# Altium schematic symbol library Qbot_1.SCHLIB: 33 symbols
Pins are listed as number, name and electrical type; pins without a type are passive.

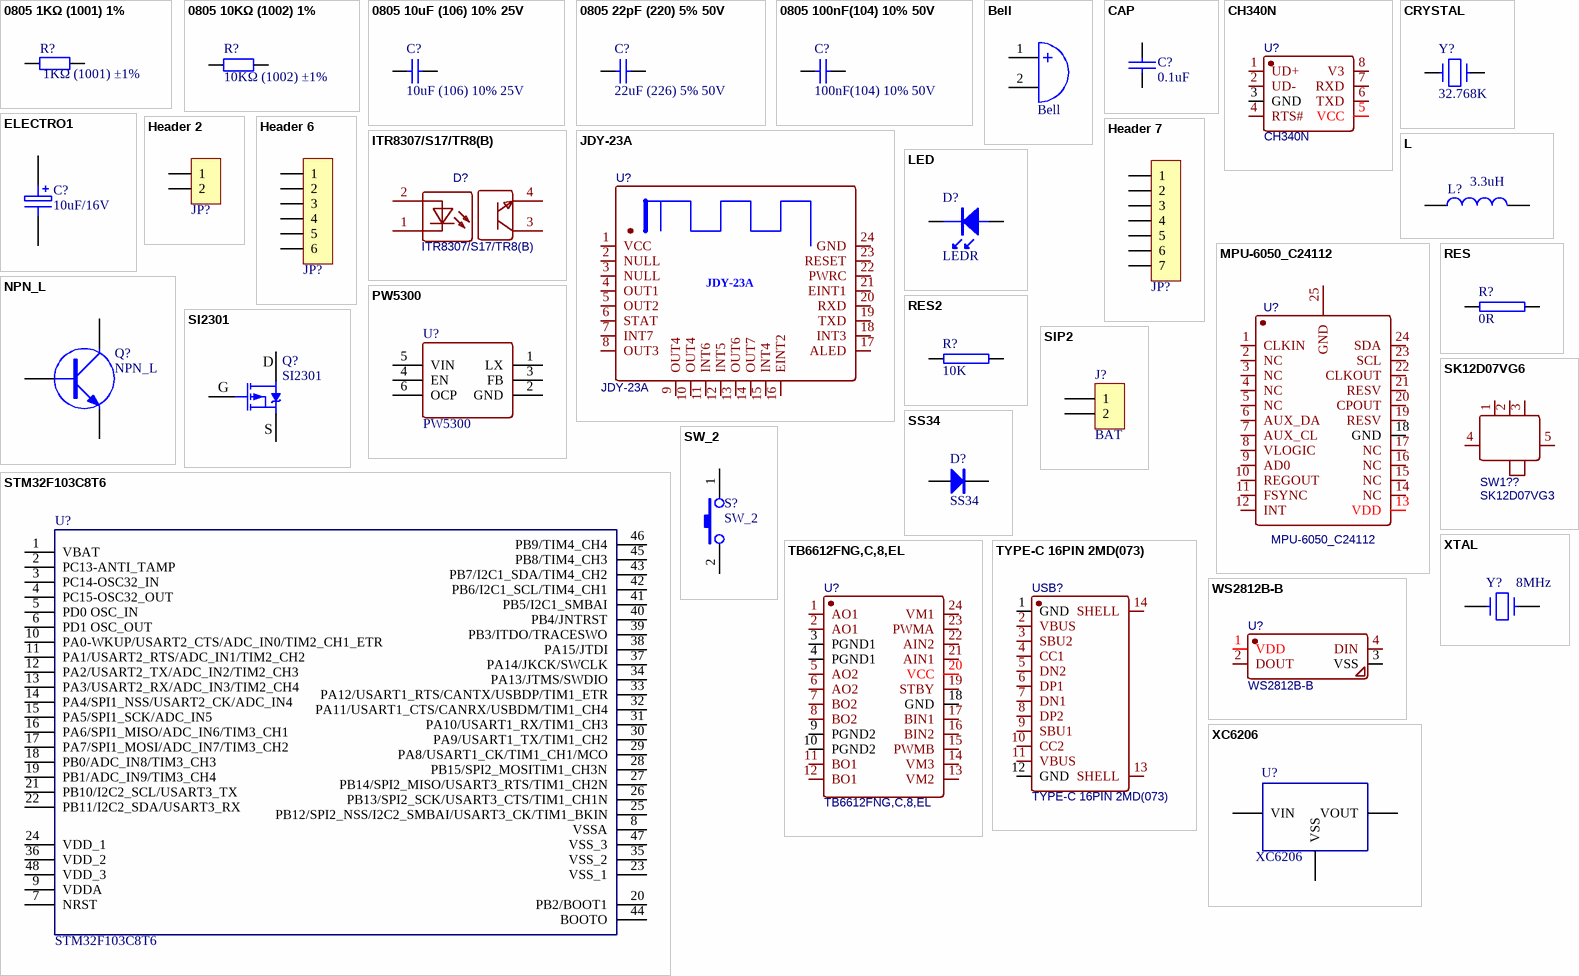
[diagram p0: symbols 0805 1KΩ (1001) 1% to XTAL]

## 0805 1KΩ (1001) 1%
designator R?, comment 1KΩ (1001) ±1%
贴片电阻; ComponentLink1Description: 供应商链接; ComponentLink1URL: http://www.szlcsc.com/product/details_18201.html; Package: 0805; Supplier: LC; SuppliersPartNumber: C17513
footprint LC-0805_R
pins: 1, 2

## 0805 10KΩ (1002) 1%
designator R?, comment 10KΩ (1002) ±1%
贴片电阻; ComponentLink1Description: 供应商链接; ComponentLink1URL: http://www.szlcsc.com/product/details_18102.html; Package: 0805; Supplier: LC; SuppliersPartNumber: C17414
footprint LC-0805_R
pins: 1, 2

## 0805 10uF (106) 10% 25V
designator C?, comment 10uF (106) 10% 25V
贴片电容; ComponentLink1Description: 供应商链接; ComponentLink1URL: http://www.szlcsc.com/product/details_16532.html; Package: 0805; Supplier: LC; SuppliersPartNumber: C15850
footprint LC-0805_C
pins: 1, 2

## 0805 22pF (220) 5% 50V
designator C?, comment 22uF (226) 5% 50V
贴片电容; ComponentLink1Description: 供应商链接; ComponentLink1URL: http://www.szlcsc.com/product/details_2156.html; Package: 0805; Supplier: LC; SuppliersPartNumber: C1804
footprint LC-0805_C
pins: 1, 2

## 0805 100nF(104) 10% 50V
designator C?, comment 100nF(104) 10% 50V
贴片电容; ComponentLink1Description: 供应商链接; ComponentLink1URL: http://www.szlcsc.com/product/details_50686.html; Package: 0805; Supplier: LC; SuppliersPartNumber: C49678
footprint LC-0805_C
pins: 1, 2

## Bell
designator LS?
Electrical Bell; Published: 24-Mar-1999; LatestRevisionDate: 17-Jul-2002; LatestRevisionNote: Re-released for DXP Platform.; Publisher: Altium Limited
footprint BELL
pins: 1 A, 2 B

## CAP
designator C?, comment 0.1uF
Capacitor
footprint LC-0805_C
pins: 1, 2
2 alternate drawings of the same symbol

## CH340N
designator U?
BOM_Manufacturer: WCH(Jiangsu Qin Heng); subpart_no: 1; Contributor: LCSC; BOM_Supplier: LCSC; BOM_Supplier Part: C506813; BOM_Manufacturer Part: CH340N; BOM_JLCPCB Part Class: Extended Part; spicePre: U; spiceSymbolName: CH340N
footprint SOP8 (（蒜米工坊）)
pins: 1 UD+, 2 UD-, 3 GND, 4 RTS#, 5 VCC, 6 TXD, 7 RXD, 8 V3

## CRYSTAL
designator Y?, comment 32.768K
晶振
footprint OSC-3x10-WI-A
pins: 1, 2
2 alternate drawings of the same symbol

## ELECTRO1
designator C?, comment 10uF/16V
Electrolytic Capacitor
footprint LC-0805_C
pins: 1, 2
2 alternate drawings of the same symbol

## Header 2
designator JP?, comment HDR-1X2  (value not drawn)
2P接插件; 版权归属: 源创客; BOM名称: 2P接插件; 学习资源: www.ooocke.com
pins: 1, 2

## Header 6
designator JP?, comment HDR-1X6  (value not drawn)
6P接插件; 版权归属: 源创客; BOM名称: 6P接插件; 学习资源: www.ooocke.com
footprint HDR2.54-WI-6P (弯脚排针，6脚)
pins: 1, 2, 3, 4, 5, 6

## Header 7
designator JP?, comment HDR-1X7  (value not drawn)
7P接插件; 版权归属: 源创客; BOM名称: 7P接插件; 学习资源: www.ooocke.com
footprint HDR2.54-M-LI-7P (排母，7脚)
pins: 1, 2, 3, 4, 5, 6, 7

## ITR8307/S17/TR8(B)
designator D?
BOM_Manufacturer: EVERLIGHT; BOM_Supplier: LCSC; BOM_Manufacturer Part: ITR8307/S17/TR8(B); BOM_Supplier Part: C81632; BOM_JLCPCB Part Class: Extended Part; spicePre: K; spiceSymbolName: ITR8307/S17/TR8(B)
footprint OPTO-SMD_ITR8307-S17-TR8-B-BL
pins: 1, 2, 3, 4

## JDY-23A
designator U?
BOM_Manufacturer: TTCIOTSDK; BOM_Manufacturer Part: HY-40R204P; Contributor: LCSC; BOM_Supplier: LCSC; BOM_Supplier Part: C172803; BOM_JLCPCB Part Class: Extended Part; spicePre: U; spiceSymbolName: HY-40R204P
footprint JDY-23A
pins: 1 VCC, 2 NULL, 3 NULL, 4 OUT1, 5 OUT2, 6 STAT, 7 INT7, 8 OUT3, 9 OUT4, 10 OUT4, 11 INT6, 12 INT5, 13 OUT6, 14 OUT7, 15 INT4, 16 EINT2, 17 ALED, 18 INT3, 19 TXD, 20 RXD, 21 EINT1, 22 PWRC, 23 RESET, 24 GND

## L
designator L?, comment 3.3uH
小功率贴片电感; 版权归属: 源创客; BOM名称: 小功率贴片电感; 学习资源: www.ooocke.com
footprint IND-SMD_L4.6-W4.1
pins: 1, 2

## LED
designator D?, comment LEDR
footprint LED0805G
pins: 1, 2
2 alternate drawings of the same symbol

## MPU-6050_C24112
designator U?
BOM_Manufacturer: InvenSense; sourceId: 1T5FDZYC8; timeStamp: 1462265206; BOM_Supplier: LCSC; BOM_Manufacturer Part: MPU-6050; BOM_Supplier Part: C24112; BOM_JLCPCB Part Class: Basic Part; spicePre: U; spiceSymbolName: MPU-6050_C24112
footprint QFN24 (4mm*4mm（蒜米工坊）)
pins: 1 CLKIN, 2 NC, 3 NC, 4 NC, 5 NC, 6 AUX_DA, 7 AUX_CL, 8 VLOGIC, 9 AD0, 10 REGOUT, 11 FSYNC, 12 INT, 13 VDD, 14 NC, 15 NC, 16 NC, 17 NC, 18 GND, 19 RESV, 20 CPOUT, 21 RESV, 22 CLKOUT, 23 SCL, 24 SDA, 25 GND

## NPN_L
designator Q?
footprint SOT-23_S8050
pins: 1 B, 2 E, 3 C

## PW5300
designator U?
footprint SOT23-6L (3x1.6x1.1mm(长宽高))
pins: 1 LX, 2 GND, 3 FB, 4 EN, 5 VIN, 6 OCP

## RES
designator R?, comment 0R
footprint LC-0805_R
pins: 1, 2
2 alternate drawings of the same symbol

## RES2
designator R?, comment 10K
footprint LC-0805_R
pins: 1, 2
2 alternate drawings of the same symbol

## SI2301
designator Q?
P沟道场效应管; 版权归属: 源创客; BOM名称: P沟道场效应管; 学习资源: www.ooocke.com
footprint SOT23
pins: 1 G, 2 S, 3 D

## SIP2
designator J?, comment BAT
jointbar
pins: 1, 2

## SK12D07VG6
designator SW1??, comment SK12D07VG3
BOM_Manufacturer: SHOU HAN(首韩); BOM_Manufacturer Part: SK12D07VG6; Contributor: LCSC; BOM_Supplier: LCSC; BOM_Supplier Part: C2681575; BOM_JLCPCB Part Class: Extended Part; spicePre: S; spiceSymbolName: SK12D07VG6
footprint SW-TH_SK-12D07-VG3
pins: 1, 2, 3, 4, 5

## SS34
designator D?
肖特基二极管; 版权归属: 源创客; 属性: 40V/3A; BOM名称: 肖特基二极管; 学习资源: www.ooocke.com
footprint SMA (4.5x2.6*2.2mm（长宽高，不包括引脚）)
pins: 1 A, 2 K

## STM32F103C8T6
designator U?
footprint STM32F103C8T6_LQFP48
pins: 1 VBAT, 2 PC13-ANTI_TAMP, 3 PC14-OSC32_IN, 4 PC15-OSC32_OUT, 5 PD0 OSC_IN, 6 PD1 OSC_OUT, 7 NRST, 8 VSSA, 9 VDDA, 10 PA0-WKUP/USART2_CTS/ADC_IN0/TIM2_CH1_ETR, 11 PA1/USART2_RTS/ADC_IN1/TIM2_CH2, 12 PA2/USART2_TX/ADC_IN2/TIM2_CH3, 13 PA3/USART2_RX/ADC_IN3/TIM2_CH4, 14 PA4/SPI1_NSS/USART2_CK/ADC_IN4, 15 PA5/SPI1_SCK/ADC_IN5, 16 PA6/SPI1_MISO/ADC_IN6/TIM3_CH1, 17 PA7/SPI1_MOSI/ADC_IN7/TIM3_CH2, 18 PB0/ADC_IN8/TIM3_CH3, 19 PB1/ADC_IN9/TIM3_CH4, 20 PB2/BOOT1, 21 PB10/I2C2_SCL/USART3_TX, 22 PB11/I2C2_SDA/USART3_RX, 23 VSS_1, 24 VDD_1, 25 PB12/SPI2_NSS/I2C2_SMBAI/USART3_CK/TIM1_BKIN, 26 PB13/SPI2_SCK/USART3_CTS/TIM1_CH1N, 27 PB14/SPI2_MISO/USART3_RTS/TIM1_CH2N, 28 PB15/SPI2_MOSITIM1_CH3N, 29 PA8/USART1_CK/TIM1_CH1/MCO, 30 PA9/USART1_TX/TIM1_CH2, 31 PA10/USART1_RX/TIM1_CH3, 32 PA11/USART1_CTS/CANRX/USBDM/TIM1_CH4, 33 PA12/USART1_RTS/CANTX/USBDP/TIM1_ETR, 34 PA13/JTMS/SWDIO, 35 VSS_2, 36 VDD_2, 37 PA14/JKCK/SWCLK, 38 PA15/JTDI, 39 PB3/ITDO/TRACESWO, 40 PB4/JNTRST, 41 PB5/I2C1_SMBAI, 42 PB6/I2C1_SCL/TIM4_CH1, 43 PB7/I2C1_SDA/TIM4_CH2, 44 BOOTO, 45 PB8/TIM4_CH3, 46 PB9/TIM4_CH4, 47 VSS_3, 48 VDD_3
2 alternate drawings of the same symbol

## SW_2
designator S?
footprint 3X6轻触开关
pins: 1, 2
2 alternate drawings of the same symbol

## TB6612FNG,C,8,EL
designator U?
BOM_Manufacturer: TOSHIBA; Contributor: LCSC; BOM_Supplier: LCSC; BOM_Manufacturer Part: TB6612FNG,C,8,EL; BOM_Supplier Part: C141517; BOM_JLCPCB Part Class: Extended Part; spicePre: U; spiceSymbolName: TB6612FNG,C,8,EL
footprint SSOP24 (8.3*7.8*1.6（蒜米工坊）)
pins: 1 AO1, 2 AO1, 3 PGND1, 4 PGND1, 5 AO2, 6 AO2, 7 BO2, 8 BO2, 9 PGND2, 10 PGND2, 11 BO1, 12 BO1, 13 VM2, 14 VM3, 15 PWMB, 16 BIN2, 17 BIN1, 18 GND, 19 STBY, 20 VCC, 21 AIN1, 22 AIN2, 23 PWMA, 24 VM1

## TYPE-C 16PIN 2MD(073)
designator USB?
BOM_Manufacturer: SHOU HAN(首韩); Contributor: LCSC; BOM_Supplier: LCSC; BOM_Supplier Part: C2765186; BOM_Manufacturer Part: TYPE-C 16PIN 2MD(073); BOM_JLCPCB Part Class: Extended Part; spicePre: U; spiceSymbolName: TYPE-C 16PIN 2MD(073)
footprint USB-C-SMD_TYPE-C-6PIN-2MD-073
pins: 1 GND, 2 VBUS, 3 SBU2, 4 CC1, 5 DN2, 6 DP1, 7 DN1, 8 DP2, 9 SBU1, 10 CC2, 11 VBUS, 12 GND, 13 SHELL, 14 SHELL

## WS2812B-B
designator U?
BOM_Manufacturer: Worldsemi; Contributor: LCSC; BOM_Supplier: LCSC; BOM_Manufacturer Part: WS2812B-B; BOM_Supplier Part: C114586; BOM_JLCPCB Part Class: Extended Part; spicePre: L; spiceSymbolName: WS2812B-B
footprint LED-SMD_4P-L5.0-W5.0-TL_WS2812B-B
pins: 1 VDD, 2 DOUT, 3 VSS, 4 DIN

## XC6206
designator U?
footprint SOT-23_TL431
pins: 1 VSS, 2 VOUT, 3 VIN
2 alternate drawings of the same symbol

## XTAL
designator Y?, comment 8MHz
Crystal
footprint OSC HC-49S
pins: 1, 2
2 alternate drawings of the same symbol